# Altium footprint library WSON8-6x5-EP.PcbLib: 1 footprints
Each footprint in its own frame and in the unit in brackets; x right, y up, seen from the top. Pads: shape width x height; smd on the part's side, far side on the other; paste and mask are expansions set on the pad; w line width, h text height; cw(c..) or ccw(c..) is an arc to the next point about the centre after c.
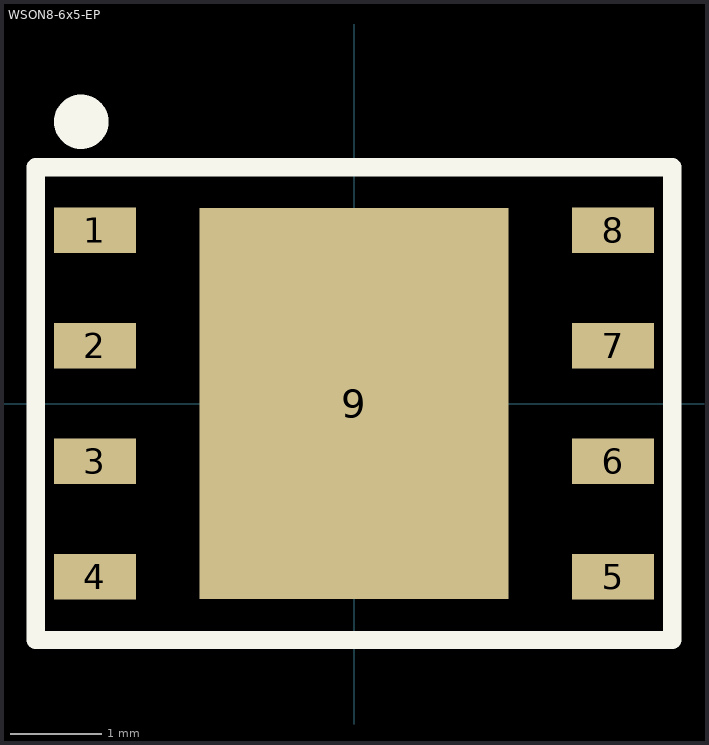
[diagram p0: the footprint, top view; thin cyan lines are the x and y axes]

## WSON8-6x5-EP [mm]
pads (9):
  rect 0.9x0.5 smd: 1(-2.85,1.905) 2(-2.85,0.635) 3(-2.85,-0.635) 4(-2.85,-1.905) 5(2.85,-1.905) 6(2.85,-0.635) 7(2.85,0.635) 8(2.85,1.905)
  rect 3.4x4.3 smd: 9(0,0)
Top Overlay:
  circle w0.3: c-3,3.1 r0.15
  lines w0.2: -3.5,-2.6 -3.5,2.6 3.5,2.6 3.5,-2.6 -3.5,-2.6
Top Assembly:
  circle w0.2: c-3,1.905 r0.1
  lines w0.1: -3.5,-2.6 -3.5,2.6 3.5,2.6 3.5,-2.6 -3.5,-2.6
  text "'.Designator'" at -3.965,-0.292 h0.7
3D body "User Library-8 WSON.step": height 0.75, standoff 0, extent -3,-2.5 3,2.5